# Altium schematic symbol library Schlib1.SchLib: 20 symbols
Pins are listed as number, name and electrical type; pins without a type are passive.

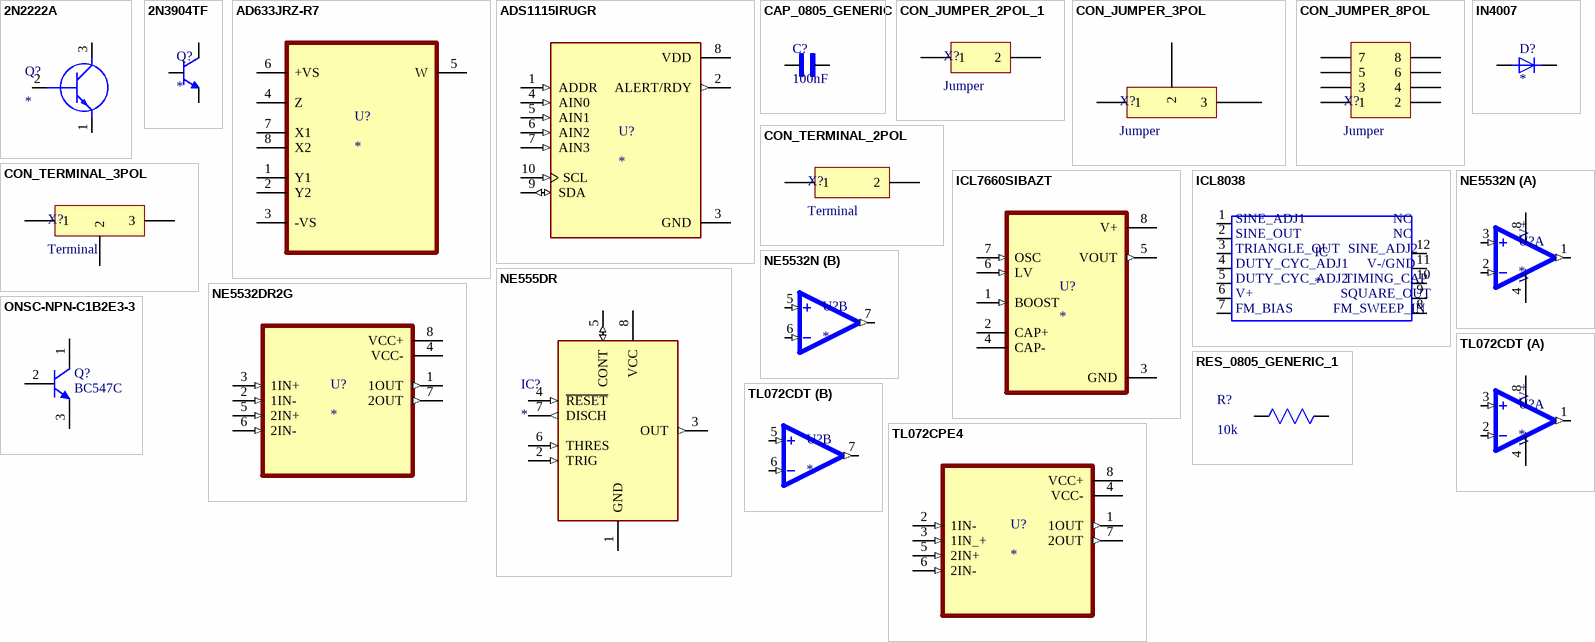
[diagram p0: symbols 2N2222A to TL072CPE4]

## 2N2222A
designator Q?
Transistor BJT NPN; Manufacturer_Name: Diotec; Manufacturer_Part_Number: 2N2222A; Datasheet Link: https://diotec.com/request/datasheet/2n2222a.pdf; Height: 7.5mm; Mouser Part Number: 637-2N2222A; Mouser Price/Stock: https://www.mouser.co.uk/ProductDetail/Diotec-Semiconductor/2N2222A?qs=OlC7AqGiEDmNlRSTGL2dYg%3D%3D; Arrow Part Number: 2N2222A; Arrow Price/Stock: https://www.arrow.com/en/products/2n2222a/diotec-semiconductor-ag
footprint 2N2222A
pins: 1 E, 2 B, 3 C

## 2N3904TF
designator Q?
Transistor General Purpose BJT NPN 40 Volt 0.2 Amp 3-Pin TO-92 Tape And Reel; MF: Fairchild Semiconductor; MP: 2N3904TF; SnapEDA_Link: https://www.snapeda.com/parts/2N3904TF/Fairchild+Imaging/view-part/?ref=snap; Package: TO-92-3 ON Semiconductor; Value: *; Check_prices: https://www.snapeda.com/parts/2N3904TF/Fairchild+Imaging/view-part/?ref=eda
footprint TO92254P520H877-3
pins: 1 E, 2 B, 3 C

## AD633JRZ-R7
designator U?
Analog Multiplier 4-Quadrant 8-SOIC; MF: Analog Devices; MP: AD633AR; SnapEDA_Link: https://www.snapeda.com/parts/AD633AR/Analog+Devices/view-part/?ref=snap; Package: SOIC-8 Analog Devices; Value: *; Check_prices: https://www.snapeda.com/parts/AD633AR/Analog+Devices/view-part/?ref=eda
footprint SOIC127P600X175-8N
pins: 1 Y1, 2 Y2, 3 -VS (power), 4 Z, 5 W, 6 +VS (power), 7 X1, 8 X2

## ADS1115IRUGR
designator U?
16-bit, 860-SPS, 4-channel, delta-sigma ADC with PGA, oscillator, VREF, comparator and I2C; MF: Texas Instruments; MP: ADS1115IRUGR; Availability: In Stock; SnapEDA_Link: https://www.snapeda.com/parts/ADS1115IRUGR/Texas+Instruments/view-part/?ref=snap; Check_prices: https://www.snapeda.com/parts/ADS1115IRUGR/Texas+Instruments/view-part/?ref=eda; Value: *; Package: X2QFN-10 Texas Instruments; Purchase-URL: https://pricing.snapeda.com/search/part/ADS1115IRUGR/?ref=eda; Price: None
footprint IC_ADS1115IRUGR
pins: 1 ADDR (in), 2 ALERT/RDY (out), 3 GND (power), 4 AIN0 (in), 5 AIN1 (in), 6 AIN2 (in), 7 AIN3 (in), 8 VDD (power), 9 SDA (io), 10 SCL (in)

## CAP_0805_GENERIC
designator C?, comment 100nF
0.1 ÂµF Â±10% 50V Ceramic Capacitor X7R 0805 (2012 Metric); MF: Samsung Electro-Mechanics; MP: CL21B104KBCNNNC; SnapEDA_Link: https://www.snapeda.com/parts/CL21B104KBCNNNC/Samsung/view-part/?ref=snap; Package: SMD-2 Samsung; Value: 100nF; Check_prices: https://www.snapeda.com/parts/CL21B104KBCNNNC/Samsung/view-part/?ref=eda; Voltage: 50V
footprint CAPC2012X95N
pins: 1, 2

## CON_JUMPER_2POL_1
designator X?, comment Jumper
Manufacturer_Name: Yageo; Manufacturer_Part_Number: RC0805FR-0710KL; Value: 10k; Copyright: Copyright (C) 2025 Ultra Librarian. All rights reserved.
footprint CON_JUMPER_2POL (Jumper)
pins: 1, 2

## CON_JUMPER_3POL
designator X?, comment Jumper
Manufacturer_Name: Yageo; Manufacturer_Part_Number: RC0805FR-0710KL; Value: 10k; Copyright: Copyright (C) 2025 Ultra Librarian. All rights reserved.
footprint CON_JUMPER_3POL (Jumper)
pins: 1, 2, 3

## CON_JUMPER_8POL
designator X?, comment Jumper
Manufacturer_Name: Yageo; Manufacturer_Part_Number: RC0805FR-0710KL; Value: 10k; Copyright: Copyright (C) 2025 Ultra Librarian. All rights reserved.
footprint CON_JUMPER_8POL (Jumper)
pins: 1, 2, 3, 4, 5, 6, 7, 8

## CON_TERMINAL_2POL
designator X?, comment Terminal
Terminal Screw; Manufacturer_Name: Yageo; Manufacturer_Part_Number: RC0805FR-0710KL; Value: 10k; Copyright: Copyright (C) 2025 Ultra Librarian. All rights reserved.
footprint CON_TERMINAL_2POL (Terminal Screw)
pins: 1, 2

## CON_TERMINAL_3POL
designator X?, comment Terminal
Terminal block; Manufacturer_Name: Yageo; Manufacturer_Part_Number: RC0805FR-0710KL; Value: 10k; Copyright: Copyright (C) 2025 Ultra Librarian. All rights reserved.
footprint CON_TERMINAL_3POL (Terminal Screw)
pins: 1, 2, 3

## ICL7660SIBAZT
designator U?
Charge Pump Switching Regulator IC Positive or Negative Fixed -Vin, 2Vin 1 Output 45mA 8-SOIC (0.154, 3.90mm Width); MF: Renesas Electronics America Inc; MP: ICL7660SIBAZT; SnapEDA_Link: https://www.snapeda.com/parts/ICL7660SIBAZT/Renesas/view-part/?ref=snap; Package: SOIC-8 Renesas Electronics America Inc; Value: *; Check_prices: https://www.snapeda.com/parts/ICL7660SIBAZT/Renesas/view-part/?ref=eda
footprint SOIC127P600X175-8N
pins: 1 BOOST (in), 2 CAP+, 3 GND (power), 4 CAP-, 5 VOUT (out), 6 LV (in), 7 OSC (in), 8 V+ (power)

## ICL8038
designator IC
IC OSCILL GEN/VOLT CONTROL 14DIP; MF: Renesas Electronics; MP: ICL8038; Value: *; Price: None; Availability: Unavailable; SnapEDA_Link: https://www.snapeda.com/parts/ICL8038/Renesas%20Electronics%20America%20Inc./view-part/1764984/?ref=snap; Package: None
footprint ICL8038
pins: 1, 2, 3, 4, 5, 6, 7, 8, 9, 10, 11, 12
text: SINE_ADJ1; NC; SINE_OUT; TRIANGLE_OUT; SINE_ADJ2; DUTY_CYC_ADJ1; V-/GND; DUTY_CYC_ADJ2; TIMING_CAP; V+; SQUARE_OUT; FM_BIAS; FM_SWEEP_IN

## IN4007
designator D?
Diode Standard 1000 V 1A Through Hole DO-204AL (DO-41); MF: Vishay Semiconductor; MP: IN4007; SnapEDA_Link: https://www.snapeda.com/parts/IN4007/Vishay/view-part/?ref=snap; Package: DO-41 Vishay Semiconductor; Value: *; Check_prices: https://www.snapeda.com/parts/IN4007/Vishay/view-part/?ref=eda
footprint DIOAD1070W78L470D235P
pins: A, C

## NE555DR
designator IC?
Integrated Circuit; Manufacturer_Name: Texas Instruments; Manufacturer_Part_Number: NE555DR; Datasheet Link: http://www.ti.com/lit/ds/symlink/ne555.pdf; Height: 1.75mm; Mouser Part Number: 595-NE555DR; Mouser Price/Stock: https://www.mouser.com/Search/Refine.aspx?Keyword=595-NE555DR; RS Part Number: 1218414; RS Price/Stock: http://uk.rs-online.com/web/p/products/1218414
footprint SOIC127P600X175-8N
pins: 1 GND (power), 2 TRIG (in), 3 OUT (out), 4 ~{RESET} (in), 5 CONT (io), 6 THRES (in), 7 DISCH (out), 8 VCC (power)

## NE5532DR2G
designator U?
NE Series 9 V/us 22 V SMT Dual Low Noise Operational Amplifier - SOIC-16W; MP: NE5532DR2G; MF: ON Semiconductor; Value: *; Purchase-URL: https://pricing.snapeda.com/search/part/NE5532DR2G/?ref=eda; Package: SOIC-16 ON Semiconductor; Check_prices: https://www.snapeda.com/parts/NE5532DR2G/Onsemi/view-part/?ref=eda; SnapEDA_Link: https://www.snapeda.com/parts/NE5532DR2G/Onsemi/view-part/?ref=snap; Digi-Key_Part_Number: NE5532DR2GOSTR-ND
footprint SOIC127P599X175-8N
pins: 1 1OUT (out), 2 1IN- (in), 3 1IN+ (in), 4 VCC- (power), 5 2IN+ (in), 6 2IN- (in), 7 2OUT (out), 8 VCC+ (power)

## NE5532N
designator U?
IC, OP AMP, DUAL; No. of Amplifiers: 2 Amplifier; Bandwidth: 10MHz; Slew Rate: 8V/Âµs; Supply Voltage Range: Â± 15V; Amplifier Case Style: DIP; No. of Pins: 8Pins; Operating Temperature Min: 0Â°C; Operating Temperature Max: 70Â°C; MSL: -; SVHC: No SVHC (1; MF: Fairchild Semiconductor; MP: NE5532N; SnapEDA_Link: https://www.snapeda.com/parts/NE5532N/Fairchild+Imaging/view-part/?ref=snap; Package: PDIP-8 ON Semiconductor; Value: *; Check_prices: https://www.snapeda.com/parts/NE5532N/Fairchild+Imaging/view-part/?ref=eda
footprint DIP766W45P254L1016H533Q8
part A pins: 1 OUTA (out), 2 -INA (in), 3 +INA (in), 4 V- (power), 8 V+ (power)
part B pins: 5 +INB (in), 6 -INB (in), 7 OUTB (out)

## ONSC-NPN-C1B2E3-3
designator Q?, comment BC547C
Amplifier Transistor, NPN Silicon, 3-Pin TO-92, Bulk Box; Manufacturer: On Semiconductor; IC Continuous (A): 0.1; fT Min (MHz): 150; Mounting Technology: Through Hole; ComponentLink1URL: http://www.onsemi.com/; ComponentLink1Description: Manufacturer URL; ComponentLink3URL: http://www.onsemi.cn/pub_link/Collateral/2N6426-D.PDF; DatasheetVersion: Rev. 7; PackageVersion: Rev. AM; Packing: Bulk Box; RoHS: FALSE; Polarity: NPN; PartNumber: BC547C; ComponentLink2URL: http://www.onsemi.com/pub_link/Collateral/BC546-D.PDF; ComponentLink3Description: Package Specification; PackageDescription: 3-Pin Transistor Outline, Body 4.825 x 3.685 mm, Pitch 1.27 mm; PackageReference: TO-92-3-29-11_AM_SL; ComponentLink2Description: Datasheet
footprint ONSC-TO-92-3-29-11 (TO, 3-Leads, Body Dia 4.7mm, Pitch 1.27mm)
pins: 1 C, 2 B, 3 E

## RES_0805_GENERIC_1
designator R?, comment 10k
Description; Manufacturer_Name: Yageo; Manufacturer_Part_Number: RC0805FR-0710KL; Copyright: Copyright (C) 2025 Ultra Librarian. All rights reserved.; Value: 10k
footprint RC0805N_YAG-M
pins: 1, 2

## TL072CDT
designator U?
Dual Low-Noise JFET-Input General-Purpose Operational Amplifier 8-SOIC 0 to 70; MF: STMicroelectronics; MP: TL072CD; SnapEDA_Link: https://www.snapeda.com/parts/TL072CD/STMicroelectronics/view-part/?ref=snap; Package: SOIC-8 Texas Instruments; Value: *; Check_prices: https://www.snapeda.com/parts/TL072CD/STMicroelectronics/view-part/?ref=eda
footprint SOIC127P600X175-8N
part A pins: 1 OUT1 (out), 2 -IN1 (in), 3 +IN1 (in), 4 V- (power), 8 V+ (power)
part B pins: 5 +IN2 (in), 6 -IN2 (in), 7 OUT2 (out)

## TL072CPE4
designator U?
Dual Low-Noise JFET-Input General-Purpose Operational Amplifier 8-PDIP 0 to 70; MF: Texas Instruments; MP: TL072CPE4; SnapEDA_Link: https://www.snapeda.com/parts/TL072CPE4/Texas+Instruments/view-part/?ref=snap; Package: PDIP-8 Texas; Value: *; Check_prices: https://www.snapeda.com/parts/TL072CPE4/Texas+Instruments/view-part/?ref=eda
footprint DIP794W45P254L959H508Q8
pins: 1 1OUT (out), 2 1IN- (in), 3 1IN_+ (in), 4 VCC- (power), 5 2IN+ (in), 6 2IN- (in), 7 2OUT (out), 8 VCC+ (power)